# EAGLE library part NCV21872DR2G (library NCV21872DR2G)
SOIC8 Source: Datasheet <https://www.mouser.co.uk/datasheet/2/308/NCS21871_D-1841380.pdf>
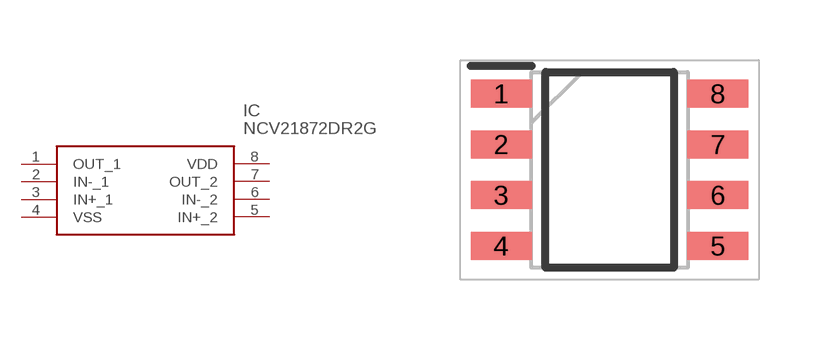
[diagram p0: symbol with the pads of SOIC127P600X175-8N; footprint SOIC127P600X175-8N]

Designator prefix IC

## NCV21872DR2G (Description: SOIC8; Height: 1.75mm; Manufacturer_Name: onsemi; Manufacturer_Part_Number: NCV21872DR2G)  [SOIC127P600X175-8N]
1  OUT_1
2  IN-_1
3  IN+_1
4  VSS
5  IN+_2
6  IN-_2
7  OUT_2
8  VDD

## Footprint SOIC127P600X175-8N (pad centres in mm)
8-Pin SOIC
smd 1.525 x 0.7: 1 -2.712,1.905; 2 -2.712,0.635; 3 -2.712,-0.635; 4 -2.712,-1.905; 5 2.712,-1.905; 6 2.712,-0.635; 7 2.712,0.635; 8 2.712,1.905